# EAGLE library part SPARKFUN-AD-MUX-16X1 (library Modules)
SparkFun Analog/Digital MUX Breakout based on CD74HC4067 chip Source: https://www.sparkfun.com/products/9056
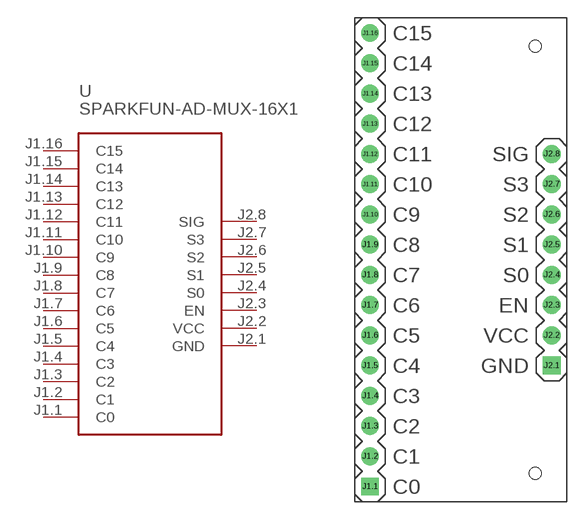
[diagram p43: symbol with the pads of SPARKFUN-AD-MUX-16X1; footprint SPARKFUN-AD-MUX-16X1]

Designator prefix -

## SPARKFUN-AD-MUX-16X1  [SPARKFUN-AD-MUX-16X1]
J1.1  C0
J1.2  C1
J1.3  C2
J1.4  C3
J1.5  C4
J1.6  C5
J1.7  C6
J1.8  C7
J1.9  C8
J1.10  C9
J1.11  C10
J1.12  C11
J1.13  C12
J1.14  C13
J1.15  C14
J1.16  C15
J2.1  GND  pwr
J2.2  VCC  pwr
J2.3  EN  in
J2.4  S0
J2.5  S1
J2.6  S2
J2.7  S3
J2.8  SIG

## Footprint SPARKFUN-AD-MUX-16X1 (pad centres in mm)
SparkFun Analog/Digital MUX Breakout based on CD74HC4067 chip
drill 1 square: J1.1 -7.62,-19.05; J2.1 7.62,-8.89
drill 1: J1.2 -7.62,-16.51; J1.3 -7.62,-13.97; J1.4 -7.62,-11.43; J1.5 -7.62,-8.89; J1.6 -7.62,-6.35; J1.7 -7.62,-3.81; J1.8 -7.62,-1.27; J1.9 -7.62,1.27; J1.10 -7.62,3.81; J1.11 -7.62,6.35; J1.12 -7.62,8.89; J1.13 -7.62,11.43; J1.14 -7.62,13.97; J1.15 -7.62,16.51; J1.16 -7.62,19.05; J2.2 7.62,-6.35; J2.3 7.62,-3.81; J2.4 7.62,-1.27; J2.5 7.62,1.27; J2.6 7.62,3.81; J2.7 7.62,6.35; J2.8 7.62,8.89
hole 1 at 6.245,-17.93
hole 1 at 6.245,17.93